# EAGLE library part LM2678T (library WallerLabLib)
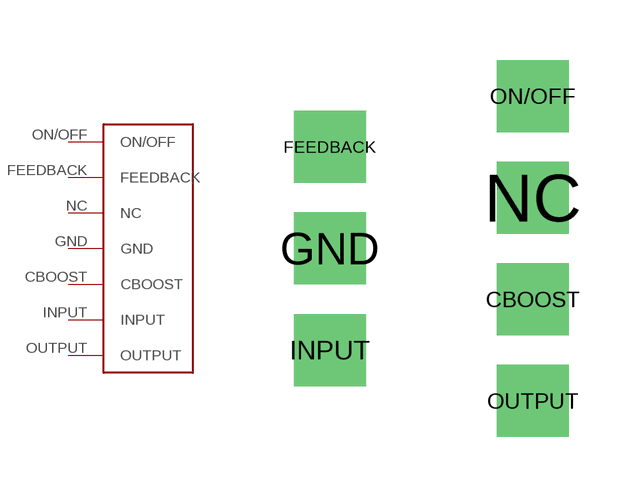
[diagram p8: symbol with the pads of LM2678T; footprint LM2678T]

Designator prefix -

## LM2678T  [LM2678T]
CBOOST  CBOOST
FEEDBACK  FEEDBACK
GND  GND
INPUT  INPUT
NC  NC
ON/OFF  ON/OFF
OUTPUT  OUTPUT

## Footprint LM2678T (pad centres in mm)
drill 1.2 square: CBOOST 5.08,-1.27; FEEDBACK 0,2.54; GND 0,0; INPUT 0,-2.54; NC 5.08,1.27; ON/OFF 5.08,3.81; OUTPUT 5.08,-3.81